# Altium schematic symbol library 22272021.SchLib: 1 symbol
Pins are listed as number, name and electrical type; pins without a type are passive.

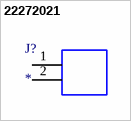
[diagram p0: symbol 22272021]

## 22272021
designator J?
2227 - Molex Wire-to-Board 2.54 mm KK Type Straight Headers; MP: 22272021; SnapEDA_Link: https://www.snapeda.com/parts/22272021/Molex/view-part/?ref=snap; Package: None; Value: *; MF: Molex; Check_prices: https://www.snapeda.com/parts/22272021/Molex/view-part/?ref=eda
footprint CONN_AE-6410-02A_MOL
pins: 1, 2